# EAGLE library part LT1006CN8PBF (library LT1006CN8PBF)
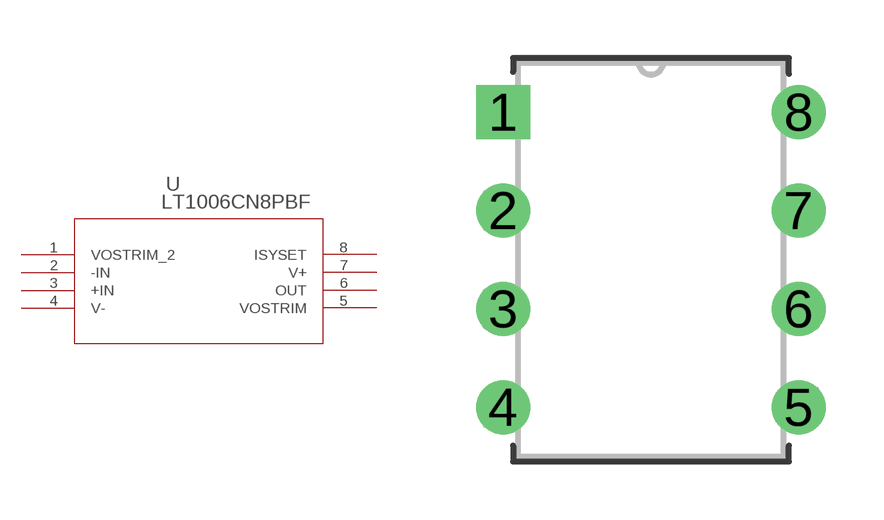
[diagram p0: symbol with the pads of PDIP-8_N; footprint PDIP-8_N]

Designator prefix U

## LT1006CN8PBF (Description: Operational Amplifier [Linear Technology] LT1006CN8#PBF Operational Amplifier; Digi-Key_Part_Number: LT1006CN8#PBF-ND; Digi-Key_Purchase_URL: https://www.digikey.de/product-detail/en/linear-technology-analog-devices/LT1006CN8-PBF/LT1006CN8-PBF-ND/890916?utm_source=snapeda&utm_medium=aggregator&utm_campaign=symbol; MF: Linear Technology; MP: LT1006CN8#PBF; Package: PDIP-8 Linear Technology)  [PDIP-8_N]
1  VOSTRIM_2  pas
2  -IN  in
3  +IN  in
4  V-  pwr
5  VOSTRIM  pas
6  OUT  out
7  V+  pwr
8  ISYSET  pas

## Footprint PDIP-8_N (pad centres in mm)
drill 0.889 pad 1.397 square: 1 -7.62,7.62
drill 0.889 pad 1.397: 2 -7.62,5.08; 3 -7.62,2.54; 4 -7.62,0; 5 0,0; 6 0,2.54; 7 0,5.08; 8 0,7.62